# Altium schematic symbol library DM6010_R0M0E0.SCHLIB: 10 symbols
Pins are listed as number, name and electrical type; pins without a type are passive.

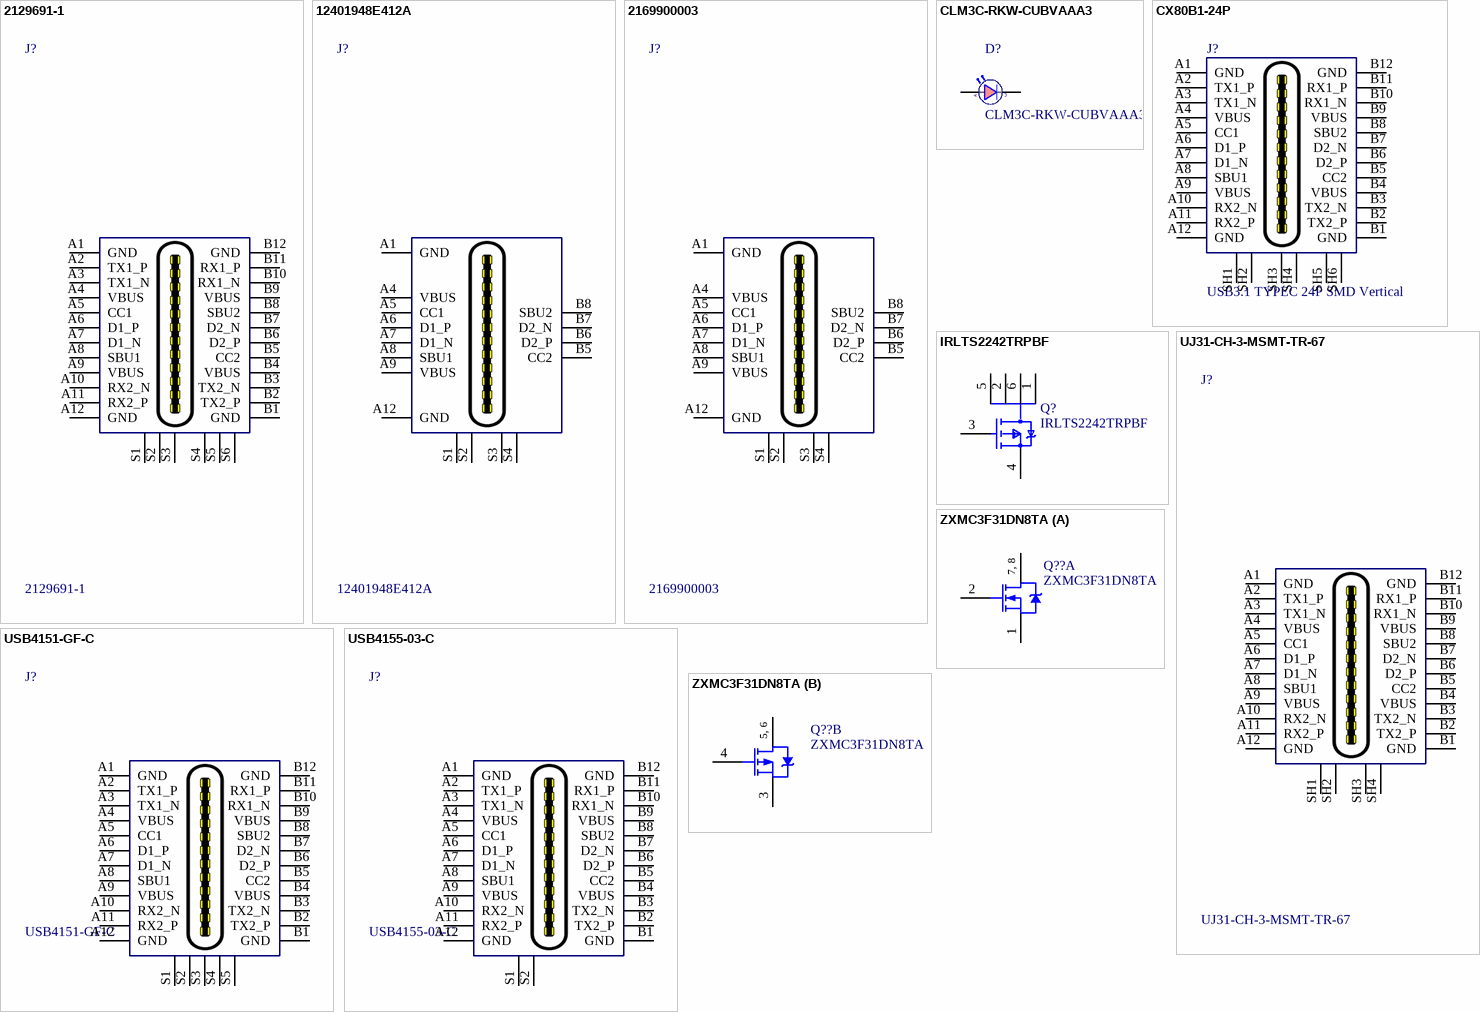
[diagram p0: symbols 2129691-1 to ZXMC3F31DN8TA]

## 2129691-1
designator J?
USB Connector, 24 Contact(s), Female, Right Angle, Solder and Surface Mount Terminal, Receptacle; Manufacturer 1: TE Connectivity AMP; Option: General Purpose; Empty Shell: No; Number of Contacts: 24; Supplier 1: RSComponents; Manufacturer Part Number 1: 2129691-1; RoHS: Yes; Category: Connectors; Stock 1: 1; Pricing 1: 5=2,14100, 100=1,83900, 250=1,74600, 500=1,65600, 1000=1,57500 (USD); Mount: Board; Insulation Material: Polyethylene; Shell Finish: Nickel; Shell Material: Stainless Steel; Connector Type: USB; Body/Shell Style: RECEPTACLE; Contact Gender: Female; Filter Feature: No; Mixed Contacts: No; Mounting Style: RIGHT ANGLE; Termination: Solder; Flammability Rating: UL94 V-0; DIN Conformance: No; IEC Conformance: No; MIL Conformance: No; REACH SVHC: Yes; RoHS Compliant: Yes; ComponentLink1URL: https://datasheet.ciiva.com:443/pdfs/VipMasterIC/IC/TYEL/TYEL-S-A0006893568/TYEL-S-A0006893568-1.pdf?src-supplier=IHS+Markit; ComponentLink1Description: https://datasheet.ciiva.com:443/pdfs/VipMasterIC/IC/TYEL/TYEL-S-A0006893568/TYEL-S-A0006893568-1.pdf?src-supplier=IHS+Markit; ComponentLink2URL: http://www.farnell.com/datasheets/1993946.pdf?src-supplier=Farnell; ComponentLink2Description: http://www.farnell.com/datasheets/1993946.pdf?src-supplier=Farnell; ComponentLink3URL: https://media.digikey.com/pdf/Data%20Sheets/Tyco%20Electonics%20AMP%20PDFs/2129691_Dwg.pdf?src-supplier=Digi-Key; ComponentLink3Description: https://media.digikey.com/pdf/Data%20Sheets/Tyco%20Electonics%20AMP%20PDFs/2129691_Dwg.pdf?src-supplier=Digi-Key; ComponentLink4URL: http://www.farnell.com/datasheets/2292385.pdf?src-supplier=Farnell; ComponentLink4Description: http://www.farnell.com/datasheets/2292385.pdf?src-supplier=Farnell; ComponentLink5URL: http://www.alliedelec.com/images/products/datasheets/bm/TE_Connectivity/70718395.pdf?src-supplier=Allied+Electronics; ComponentLink5Description: http://www.alliedelec.com/images/products/datasheets/bm/TE_Connectivity/70718395.pdf?src-supplier=Allied+Electronics; ComponentLink6URL: http://www.farnell.com/datasheets/2292385.pdf?src-supplier=Newark; ComponentLink6Description: http://www.farnell.com/datasheets/2292385.pdf?src-supplier=Newark; ComponentLink7URL: http://www.farnell.com/cad/1993947.pdf?src-supplier=Element14; ComponentLink7Description: http://www.farnell.com/cad/1993947.pdf?src-supplier=Element14; ComponentLink8URL: http://www.te.com/commerce/DocumentDelivery/DDEController?Action=showdoc&DocId=Customer+Drawing%7F2129691%7F6%7Fpdf%7FEnglish%7FENG_CD_2129691_6.pdf%7F2129691-1&src-supplier=Avnet; ComponentLink8Description: http://www.te.com/commerce/DocumentDelivery/DDEController?Action=showdoc&DocId=Customer+Drawing%7F2129691%7F6%7Fpdf%7FEnglish%7FENG_CD_2129691_6.pdf%7F2129691-1&src-supplier=Avnet; ComponentLink9URL: http://www.farnell.com/datasheets/1993946.pdf?src-supplier=Element14; ComponentLink9Description: http://www.farnell.com/datasheets/1993946.pdf?src-supplier=Element14; Supplier Part Number 1: 9097110
footprint TE_2129691-1
pins: A1 GND, A2 TX1_P, A3 TX1_N, A4 VBUS, A5 CC1, A6 D1_P, A7 D1_N, A8 SBU1, A9 VBUS, A10 RX2_N, A11 RX2_P, A12 GND, B1 GND, B2 TX2_P, B3 TX2_N, B4 VBUS, B5 CC2, B6 D2_P, B7 D2_N, B8 SBU2, B9 VBUS, B10 RX1_N, B11 RX1_P, B12 GND, S1 SH, S2 SH, S3 SH, S4 SH, S5 SH, S6 SH

## 12401948E412A
designator J?
USB Connector, 24 Contact(s), Female, Right Angle, Solder and Surface Mount Terminal, Receptacle; Manufacturer 1: Amphenol; Supplier 1: Digi-Key; Manufacturer Part Number 1: 12401948E412A; RoHS: No; Category: Connectors; Stock 1: 7993; Pricing 1: 1=1,29000, 10=1,08800, 25=1,04360, 50=1,02140, 100=0,97690, 250=0,88812, 500=0,79930 (USD); Supplier Part Number 1: 664-12401948E412ACT-ND
footprint 12401948E412A
pins: A1 GND, A4 VBUS, A5 CC1, A6 D1_P, A7 D1_N, A8 SBU1, A9 VBUS, A12 GND, B5 CC2, B6 D2_P, B7 D2_N, B8 SBU2, S1 SH, S2 SH, S3 SH, S4 SH

## 2169900003
designator J?
USB Connector, 24 Contact(s), Female, Right Angle, Solder and Surface Mount Terminal, Receptacle; Manufacturer 1: Molex; Manufacturer Part Number 1: 2169900003; RoHS: Yes; Category: Connectors
footprint 2169900003
pins: A1 GND, A4 VBUS, A5 CC1, A6 D1_P, A7 D1_N, A8 SBU1, A9 VBUS, A12 GND, B5 CC2, B6 D2_P, B7 D2_N, B8 SBU2, S1 SH, S2 SH, S3 SH, S4 SH

## CLM3C-RKW-CUBVAAA3
designator D?
Single Color LED, Red; Manufacturer 1: Cree; Shape: Rectangular; Additional Feature: HIGH RELIABILITY; Forward Current-Max: 50mA; Luminous Intensity-Nom: 730mcd; Number of Functions: 1; Viewing Angle: 120°; Overall Height: 1.3mm; Supplier 1: Arrow Electronics; Manufacturer Part Number 1: CLM3C-RKW-CUBVAAA3; RoHS: Yes; Category: LEDs; Stock 1: 46; Pricing 1: 1=0,16910, 10=0,15700, 25=0,15600, 3000=0,11060, 6000=0,10380, 9000=0,10200 (USD); Mount: Surface Mount; Number of Pins: 2; Color: Red; Min Operating Temperature: -40°C; Max Operating Temperature: 100°C; Optoelectronic Device Type: SINGLE COLOR LED; Packaging: Tape and Reel; REACH SVHC: No SVHC; RoHS Compliant: Yes; ComponentLink1URL: https://datasheet.ciiva.com:443/pdfs/VipMasterIC/IC/CREE/CREE-S-A0009778054/CREE-S-A0009831191-1.pdf?src-supplier=IHS+Markit; ComponentLink1Description: https://datasheet.ciiva.com:443/pdfs/VipMasterIC/IC/CREE/CREE-S-A0009778054/CREE-S-A0009831191-1.pdf?src-supplier=IHS+Markit; ComponentLink2URL: https://datasheet.ciiva.com/15210/getdatasheetpartid-563038-15210357.pdf?src-supplier=Verical; ComponentLink2Description: https://datasheet.ciiva.com/15210/getdatasheetpartid-563038-15210357.pdf?src-supplier=Verical; ComponentLink3URL: https://datasheet.ciiva.com/2116/clm3crkwakw1156-2116358.pdf?src-supplier=Digi-Key; ComponentLink3Description: https://datasheet.ciiva.com/2116/clm3crkwakw1156-2116358.pdf?src-supplier=Digi-Key; Supplier Part Number 1: CLM3C-RKW-CUBVAAA3
footprint CLM3C-RKW-CUBVAAA3
pins: 1 A, 2 C

## CX80B1-24P
designator J?, comment USB3.1 TYPEC 24P SMD Vertical
CONN RCPT USB3.1 TYPEC 24POS SMD Vertical; Manufacturer Part Number 1: CX80B1-24P; Manufacturer 1: Hirose Electric Co Ltd; Connector Type: USB; Number of Contacts: 24; Gender: Receptacle; Number of Ports: 1; Current Rating: 1.25A; Mating Cycles: 10000; Pitch: 0.5mm; Shielding: Shielded; Supplier 1: Digi-Key; Case/Package: 0101; Number of Pins: 24; Contact Material: Copper Alloy; Contact Plating: Gold; Number of Terminals: 24; Housing Material: Thermoplastic; Insulation Color: Black; Min Operating Temperature: -30°C; Max Operating Temperature: 80°C; Packaging: Tape and Reel; Orientation: Vertical; Termination: Solder; USB Standard: USB 3.1; Features: Shielded; Length: 8.94mm; REACH SVHC: Unknown; Flammability Rating: UL94 V-0; Supplier Part Number 1: 26-CX80B1-24PCT-ND; Mount: Surface Mount,Through Hole,Vertical; RoHS: Yes; Pricing 1: 1=2.15000, 10=1.94900, 25=1.82960, 50=1.75000, 100=1.67050, 250=1.51140, 500=1.39208 (USD); Stock 1: 939; ComponentLink1Description: Product page; ComponentLink1URL: https://www.jae.com/en/connectors/series/detail/product/id=66513; ComponentLink2Description: Digikey; ComponentLink2URL: https://www.digikey.com/en/products/detail/jae-electronics/DX07S024WJ3R400/6594044
footprint CX80B1-24P (USB3.1 Type-C Molex SMT, Through Hole, Vertical)
pins: A1 GND, A2 TX1_P, A3 TX1_N, A4 VBUS, A5 CC1, A6 D1_P, A7 D1_N, A8 SBU1, A9 VBUS, A10 RX2_N, A11 RX2_P, A12 GND, B1 GND, B2 TX2_P, B3 TX2_N, B4 VBUS, B5 CC2, B6 D2_P, B7 D2_N, B8 SBU2, B9 VBUS, B10 RX1_N, B11 RX1_P, B12 GND, SH1 SH, SH2 SH, SH3 SH, SH4 SH, SH5 SH, SH6 SH

## IRLTS2242TRPBF
designator Q?
MOSFET P-CH 20V 6.9A 6TSOP; Manufacturer 1: Infineon; Rise Time: 18ns; Threshold Voltage: -400mV; Max Power Dissipation: 2W; Gate to Source Voltage (Vgs): 12V; Input Capacitance: 905pF; Max Dual Supply Voltage: -20V; Rds On Max: 32mR; Contact Plating: Tin; Number of Pins: 6; Mount: Surface Mount; Halogen Free: Halogen Free; Packaging: Tape and Reel; Continuous Drain Current (ID): 6.9A; Case/Package: TSOP; REACH SVHC: No SVHC; RoHS Compliant: Yes; Min Operating Temperature: -55°C; Lead Free: Lead Free; Max Operating Temperature: 150°C; Drain to Source Voltage (Vdss): -20V; Manufacturer Part Number 1: IRLTS2242TRPBF
footprint TSOP-6-MFG
pins: 1 D, 2 D, 3 G, 4 S, 5 D, 6 D

## UJ31-CH-3-MSMT-TR-67
designator J?
USB Connector, 24 Contact(s), Female, Right Angle, Solder and Surface Mount Terminal, Receptacle; Manufacturer 1: CUI Devices; Supplier 1: Digi-Key; Manufacturer Part Number 1: UJ31-CH-3-MSMT-TR-67; RoHS: Yes; Category: Connectors; Stock 1: 50; Pricing 1: 1=3,65000, 10=3,31300, 25=3,13800, 50=3,06500, 100=2,91900, 250=2,55412 (USD); Supplier Part Number 1: 102-4971-1-ND
footprint CUI_UJ31-CH-3-MSMT-TR-67
pins: A1 GND, A2 TX1_P, A3 TX1_N, A4 VBUS, A5 CC1, A6 D1_P, A7 D1_N, A8 SBU1, A9 VBUS, A10 RX2_N, A11 RX2_P, A12 GND, B1 GND, B2 TX2_P, B3 TX2_N, B4 VBUS, B5 CC2, B6 D2_P, B7 D2_N, B8 SBU2, B9 VBUS, B10 RX1_N, B11 RX1_P, B12 GND, SH1 SH, SH2 SH, SH3 SH, SH4 SH

## USB4151-GF-C
designator J?
USB Connector, 24 Contact(s), Male, Straight, Surface Mount Terminal, Locking, Plug; Manufacturer 1: Global Connector Technology; Supplier 1: Newark; Manufacturer Part Number 1: USB4151-GF-C; RoHS: Yes; Stock 1: 1006; Pricing 1: 1=1,89000, 10=1,74000, 25=1,62000, 50=1,50000, 100=1,35000, 250=1,20000 (USD); Supplier Part Number 1: 86AH2023
footprint GCT_USB4151-GF-C_REVA
pins: A1 GND, A2 TX1_P, A3 TX1_N, A4 VBUS, A5 CC1, A6 D1_P, A7 D1_N, A8 SBU1, A9 VBUS, A10 RX2_N, A11 RX2_P, A12 GND, B1 GND, B2 TX2_P, B3 TX2_N, B4 VBUS, B5 CC2, B6 D2_P, B7 D2_N, B8 SBU2, B9 VBUS, B10 RX1_N, B11 RX1_P, B12 GND, S1 SH, S2 SH, S3 SH, S4 SH, S5 SH

## USB4155-03-C
designator J?
USB Connectors USB Type C, Plug, SMT , G/F, Right Angled Mount, T R; Manufacturer 1: Global Connector Technology; Supplier 1: Future Electronics; Manufacturer Part Number 1: USB4155-03-C; RoHS: No; Category: Uncategorized; Stock 1: 1000; Pricing 1: 1000=1,09000, 2000=0,87000 (USD); Supplier Part Number 1: 3144374
footprint GCT_USB4155-03-C_REVA
pins: A1 GND, A2 TX1_P, A3 TX1_N, A4 VBUS, A5 CC1, A6 D1_P, A7 D1_N, A8 SBU1, A9 VBUS, A10 RX2_N, A11 RX2_P, A12 GND, B1 GND, B2 TX2_P, B3 TX2_N, B4 VBUS, B5 CC2, B6 D2_P, B7 D2_N, B8 SBU2, B9 VBUS, B10 RX1_N, B11 RX1_P, B12 GND, S1 SH, S2 SH

## ZXMC3F31DN8TA
designator Q??
Small Signal Field-Effect Transistor, 5.7A I(D), 30V, 2-Element, N-Channel and P-Channel, Silicon, Metal-oxide Semiconductor FET; Manufacturer 1: Diodes; Package Body Material: Plastic; Polarity/Channel Type: N-CHANNEL,P-CHANNEL; Drain-source On Resistance-Max: 24mR; Number of Elements: 2; Operating Mode: ENHANCEMENT MODE; Transistor Application: SWITCHING; Qualification Status: Not Qualified; Supplier 1: Digi-Key; Manufacturer Part Number 1: ZXMC3F31DN8TA; RoHS: No; Category: MOSFETs; Stock 1: 2420; Pricing 1: 1=0,78000, 10=0,68600, 100=0,52600 (USD); Number of Pins: 8; Package Shape: Rectangular; Transistor Element Material: SILICON; Drain Current-Max (ID): 5.7A; DS Breakdown Voltage-Min: 30V; FET Technology: METAL-OXIDE SEMICONDUCTOR; JESD-30 Code: R-PDSO-G8; Package Style: SMALL OUTLINEMeter; Surface Mount: Yes; Terminal Form: Gull Wing; Terminal Position: DUAL; REACH SVHC: No SVHC; RoHS Compliant: No; ComponentLink1URL: https://datasheet.ciiva.com:443/pdfs/VipMasterIC/IC/ZETX/ZETXS02367/ZETXS02367-1.pdf?src-supplier=IHS+Markit; ComponentLink1Description: https://datasheet.ciiva.com:443/pdfs/VipMasterIC/IC/ZETX/ZETXS02367/ZETXS02367-1.pdf?src-supplier=IHS+Markit; ComponentLink2URL: https://datasheet.ciiva.com/11176/zxmc3f31dn8-11176434.pdf?src-supplier=Digi-Key; ComponentLink2Description: https://datasheet.ciiva.com/11176/zxmc3f31dn8-11176434.pdf?src-supplier=Digi-Key; ComponentLink3URL: https://datasheet.ciiva.com/11176/zxmc3f31dn8-11176434.pdf?src-supplier=Avnet; ComponentLink3Description: https://datasheet.ciiva.com/11176/zxmc3f31dn8-11176434.pdf?src-supplier=Avnet; ComponentLink4URL: https://datasheet.ciiva.com/12214/zxmc3f31dn8-7160-12214324.pdf?src-supplier=Mouser; ComponentLink4Description: https://datasheet.ciiva.com/12214/zxmc3f31dn8-7160-12214324.pdf?src-supplier=Mouser; ComponentLink5URL: https://datasheet.ciiva.com/11176/zxmc3f31dn8-11176567.pdf?src-supplier=Avnet; ComponentLink5Description: https://datasheet.ciiva.com/11176/zxmc3f31dn8-11176567.pdf?src-supplier=Avnet; Supplier Part Number 1: ZXMC3F31DN8TADICT-ND
footprint ZXMC3F31DN8TA (SOIC, 8-Leads, Body 5x4mm, Pitch 1.27mm, IPC High Density)
part A pins: 1 S1, 2 G1, 7 D1, 8 D1
part B pins: 3 S2, 4 G2, 5 D2, 6 D2
part A text: 7, 8
part B text: 5, 6